# EAGLE library part V__VFD_7-MY-01ZK (library ++Bedrahtet)
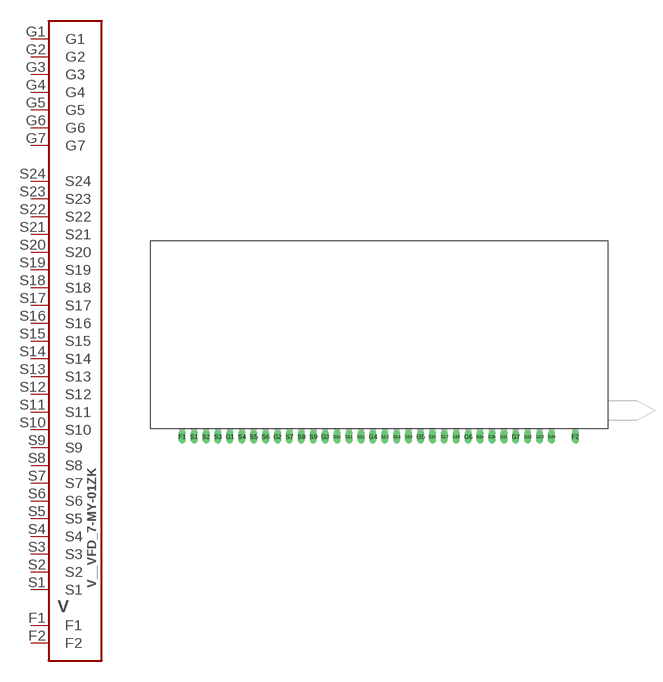
[diagram p57: symbol with the pads of VFD_7-MY-01ZK; footprint VFD_7-MY-01ZK]

Designator prefix V

## V__VFD_7-MY-01ZK  [VFD_7-MY-01ZK]
F1  F1
F2  F2
G1  G1
G2  G2
G3  G3
G4  G4
G5  G5
G6  G6
G7  G7
S1  S1
S2  S2
S3  S3
S4  S4
S5  S5
S6  S6
S7  S7
S8  S8
S9  S9
S10  S10
S11  S11
S12  S12
S13  S13
S14  S14
S15  S15
S16  S16
S17  S17
S18  S18
S19  S19
S20  S20
S21  S21
S22  S22
S23  S23
S24  S24

## Footprint VFD_7-MY-01ZK (pad centres in mm)
drill 1 long: F1 0,0; F2 83.82,0; G1 10.16,0; G2 20.32,0; G3 30.48,0; G4 40.64,0; G5 50.8,0; G6 60.96,0; G7 71.12,0; S1 2.54,0; S2 5.08,0; S3 7.62,0; S4 12.7,0; S5 15.24,0; S6 17.78,0; S7 22.86,0; S8 25.4,0; S9 27.94,0; S10 33.02,0; S11 35.56,0; S12 38.1,0; S13 43.18,0; S14 45.72,0; S15 48.26,0; S16 53.34,0; S17 55.88,0; S18 58.42,0; S19 63.5,0; S20 66.04,0; S21 68.58,0; S22 73.66,0; S23 76.2,0; S24 78.74,0